# Altium schematic symbol library 100uF_elect.SchLib: 1 symbol
Pins are listed as number, name and electrical type; pins without a type are passive.

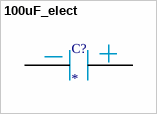
[diagram p0: symbol 100uF_elect]

## 100uF_elect
designator C?
footprint 100uF_elect
pins: 1 Cout, 2 Cin